# Altium footprint library Pcb_WS_v4.PcbLib: 33 footprints (part 3 of 3)
Each footprint in its own frame and in the unit in brackets; x right, y up, seen from the top. Pads: shape width x height; smd on the part's side, far side on the other; paste and mask are expansions set on the pad; w line width, h text height; cw(c..) or ccw(c..) is an arc to the next point about the centre after c.
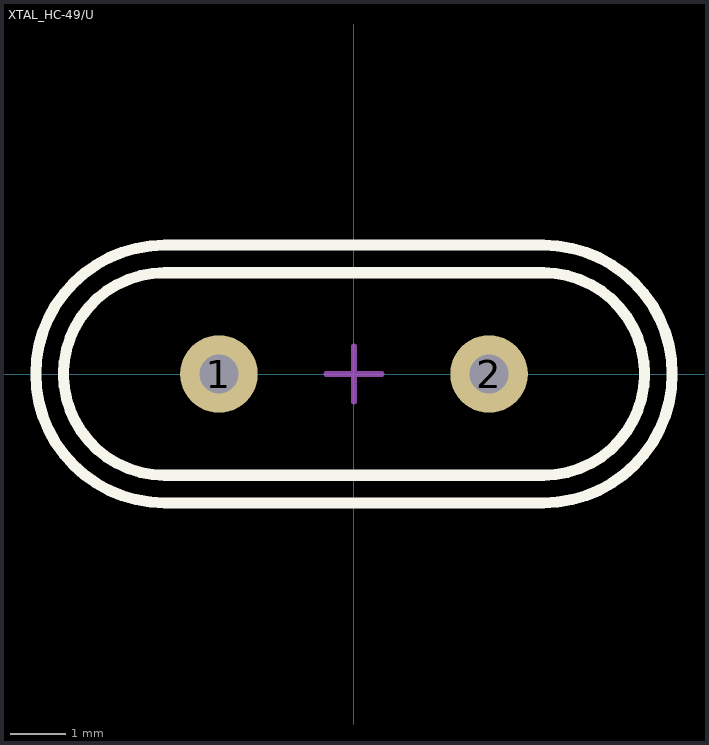
[diagram p2: the footprint, top view; thin cyan lines are the x and y axes]

## XTAL_HC-49/U [mm] "HC-49/U Leaded Cristal, Body 11.05x4.8mm; Pitch 4.88mm"
height 13.6
pads (2):
  round 1.4 hole 0.7: 1(-2.44,0) 2(2.44,0)
Top Overlay:
  lines w0.2: -5.75,0 cw(c-3.42,0) -3.42,2.33 3.42,2.33 cw(c3.42,0) 5.75,0 cw(c3.42,0) 3.42,-2.33 -3.42,-2.33 cw(c-3.42,0) -5.75,0 ; -5.25,0 cw(c-3.42,0) -3.42,1.83 3.42,1.83 cw(c3.42,0) 5.25,0 cw(c3.42,0) 3.42,-1.83 -3.42,-1.83 cw(c-3.42,0) -5.25,0
Mechanical 8:
  lines w0.1: -2.94,0 -2.44,0 ; -2.44,-0.5 -2.44,0 ; -2.44,0.5 -2.44,0 ; -1.94,0 -2.44,0 ; -0.5,0 0,0 ; 0,-0.5 0,0 ; 0,0.5 0,0 ; 0.5,0 0,0 ; 1.94,0 2.44,0 ; 2.44,-0.5 2.44,0 ; 2.44,0.5 2.44,0 ; 2.94,0 2.44,0
Top Assembly:
  lines w0.1: -5.75,0 cw(c-3.42,0) -3.42,2.33 3.42,2.33 cw(c3.42,0) 5.75,0 cw(c3.42,0) 3.42,-2.33 -3.42,-2.33 cw(c-3.42,0) -5.75,0 ; -5.25,0 cw(c-3.42,0) -3.42,1.83 3.42,1.83 cw(c3.42,0) 5.25,0 cw(c3.42,0) 3.42,-1.83 -3.42,-1.83 cw(c-3.42,0) -5.25,0
3D body "XTAL_CITIZEN_HC-49-U-S.stp": height 3.5, standoff -3.6, extent -5.75,-2.33 5.75,2.33